# EAGLE library part ACS713 (library piccoli)
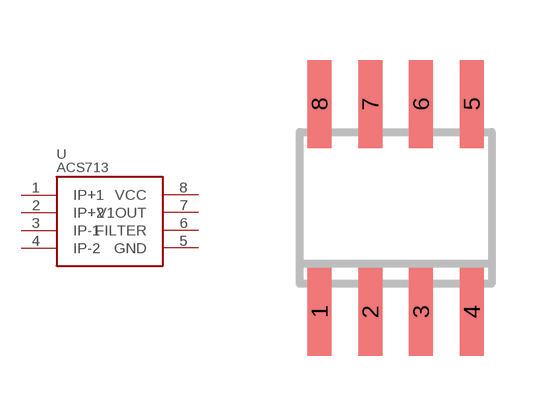
[diagram p0: symbol with the pads of ACS713; footprint ACS713]

Designator prefix -

## ACS713  [ACS713]
1  IP+1  in
2  IP+2  in
3  IP-1  out
4  IP-2  out
5  GND  pwr
6  FILTER
7  V1OUT  out
8  VCC  pwr

## Footprint ACS713 (pad centres in mm)
smd 0.6 x 2.2: 1 -1.905,-2.6; 2 -0.635,-2.6; 3 0.635,-2.6; 4 1.905,-2.6; 5 1.905,2.6; 6 0.635,2.6; 7 -0.635,2.6; 8 -1.905,2.6